# EAGLE library part FE05-2W (library Mine)
FEMALE HEADER
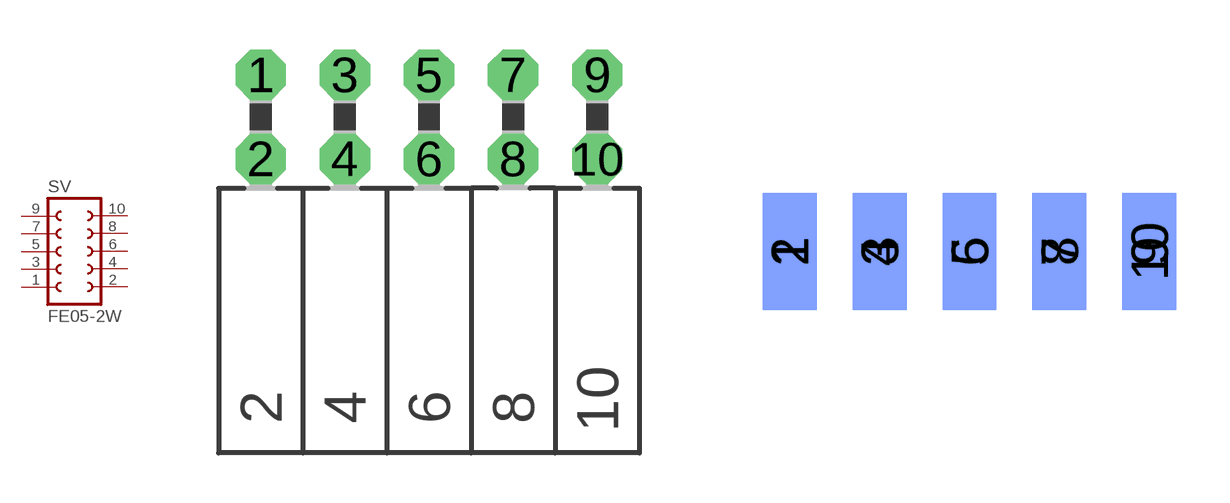
[diagram p32: symbol with the pads of FE05-2W; footprints FE05-2W, EDGE_10]

Designator prefix SV

## FE05-2W (OC_FARNELL: unknown; OC_NEWARK: unknown)  [FE05-2W]
1  1  pas
2  2  pas
3  3  pas
4  4  pas
5  5  pas
6  6  pas
7  7  pas
8  8  pas
9  9  pas
10  10  pas

## FE05-2WED  [EDGE_10]
Pads as for FE05-2W

## Footprint FE05-2W (pad centres in mm)
FEMALE HEADER
drill 1.016 octagon: 1 -5.08,1.27; 2 -5.08,-1.27; 3 -2.54,1.27; 4 -2.54,-1.27; 5 0,1.27; 6 0,-1.27; 7 2.54,1.27; 8 2.54,-1.27; 9 5.08,1.27; 10 5.08,-1.27

## Footprint EDGE_10 (pad centres in mm)
smd 1.524 x 3.302: 1 -7.62,-1.778; 3 -5.08,-1.778; 5 -2.54,-1.778; 7 0,-1.778; 9 2.54,-1.778
smd 1.524 x 3.302 bottom: 2 -7.62,-1.778; 4 -5.08,-1.778; 6 -2.54,-1.778; 8 0,-1.778; 10 2.54,-1.778